# EAGLE library part ATTINY4313MUR (library AccelDataLogger)
Attiny 4313MUR: Mircochip Mircocontroller Specifications: Digi-Key Part #: ATTINY4313-MMHRCT-ND <https://www.digikey.com/product-detail/en/microchip-technology/ATTINY4313-MMHR/ATTINY4313-MMHRCT-ND/3789324>
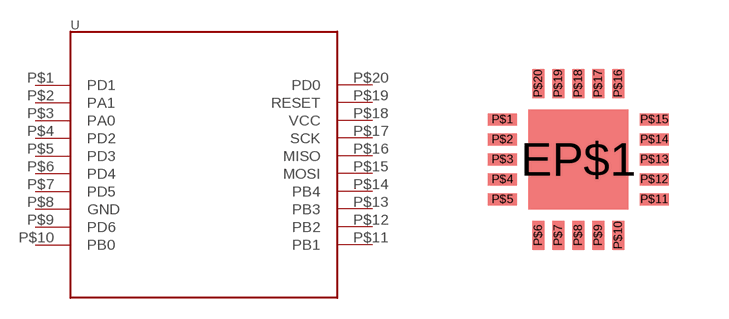
[diagram p0: symbol with the pads of 20VQFN; footprint 20VQFN]

Designator prefix U

## ATTINY4313MUR  [20VQFN]
P$1  PD1
P$2  PA1
P$3  PA0
P$4  PD2
P$5  PD3
P$6  PD4
P$7  PD5
P$8  GND
P$9  PD6
P$10  PB0
P$11  PB1
P$12  PB2
P$13  PB3
P$14  PB4
P$15  MOSI
P$16  MISO
P$17  SCK
P$18  VCC
P$19  RESET
P$20  PD0

## Footprint 20VQFN (pad centres in mm)
smd 2.5 x 2.5: EP$1 0,0
smd 0.73 x 0.3: P$1 -1.9,1; P$2 -1.9,0.5; P$3 -1.9,0; P$4 -1.9,-0.5; P$5 -1.9,-1; P$11 1.9,-1; P$12 1.9,-0.5; P$13 1.9,0; P$14 1.9,0.5; P$15 1.9,1
smd 0.3 x 0.73: P$6 -1,-1.9; P$7 -0.5,-1.9; P$8 0,-1.9; P$9 0.5,-1.9; P$10 1,-1.9; P$16 1,1.9; P$17 0.5,1.9; P$18 0,1.9; P$19 -0.5,1.9; P$20 -1,1.9